# Altium footprint library Inductor.PcbLib: 2 footprints
Each footprint in its own frame and in the unit in brackets; x right, y up, seen from the top. Pads: shape width x height; smd on the part's side, far side on the other; paste and mask are expansions set on the pad; w line width, h text height; cw(c..) or ccw(c..) is an arc to the next point about the centre after c.
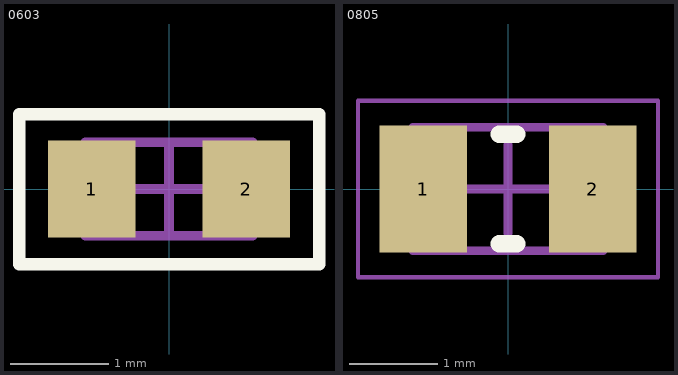
[diagram p0: the footprints below, top view; thin cyan lines are the x and y axes]

## 0603 [mm] "Chip Inductor, 2-Leads, Body 1.60x0.85mm, IPC Medium Density"
height 0.5
pads (2):
  rect 0.89x0.99 smd: 1(-0.785,0) 2(0.785,0)
Top Overlay:
  lines w0.127: -1.524,-0.762 1.524,-0.762 1.524,0.762 -1.524,0.762 -1.524,-0.762
Mechanical 13:
  lines w0.1: -0.85,-0.475 0.85,-0.475 0.85,0.475 -0.85,0.475 -0.85,-0.475
Mechanical 15:
  lines w0.05: -1.5,-0.75 1.5,-0.75 1.5,0.75 -1.5,0.75 -1.5,-0.75
  lines w0.1: -0.475,0 0.475,0 ; 0,-0.475 0,0.475
3D body "INDC1608X05N.step": height 0.5, standoff 0, extent -0.85,-0.475 0.85,0.475

## 0805 [mm] "Chip Inductor, 2-Leads, Body 2.05x1.30mm, IPC Medium Density"
height 0.55
pads (2):
  rect 0.99x1.44 smd: 1(-0.96,0) 2(0.96,0)
Top Overlay:
  lines w0.2: -0.1,-0.62 0.1,-0.62 ; -0.1,0.62 0.1,0.62
Mechanical 13:
  lines w0.1: -1.075,-0.7 -1.075,0.7 1.075,0.7 1.075,-0.7 -1.075,-0.7
Mechanical 15:
  lines w0.05: -1.7,-1 -1.7,1 1.7,1 1.7,-1 -1.7,-1
  lines w0.1: -0.5,0 0.5,0 ; 0,-0.5 0,0.5
3D body "INDC2013X06N.step": height 0.55, standoff 0, extent -1.075,-0.7 1.075,0.7